# Altium footprint library SOT.PcbLib: 163 footprints (part 11 of 11)
Each footprint in its own frame and in the unit in brackets; x right, y up, seen from the top. Pads: shape width x height; smd on the part's side, far side on the other; paste and mask are expansions set on the pad; w line width, h text height; cw(c..) or ccw(c..) is an arc to the next point about the centre after c.
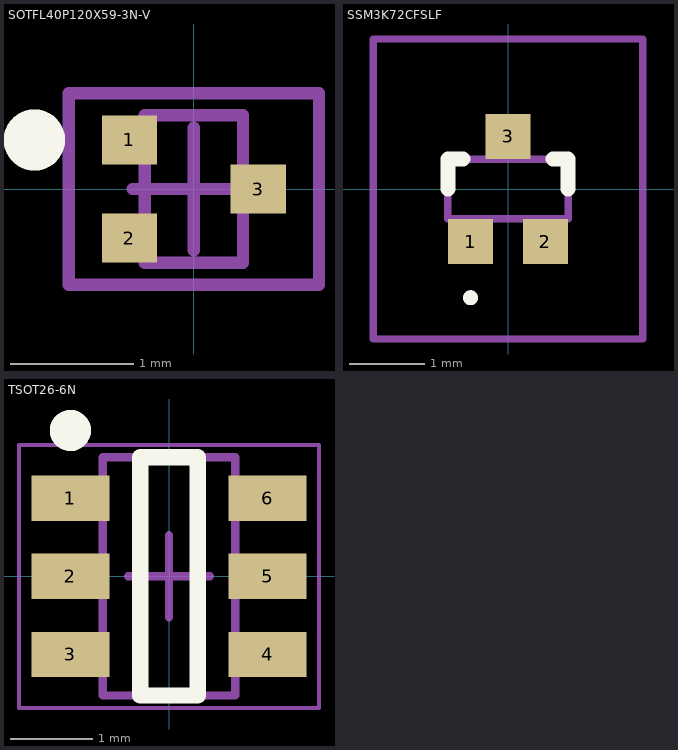
[diagram p10: the footprints below, top view; thin cyan lines are the x and y axes]

## SOTFL40P120X59-3N-V [mm] "SOTFL,0.40mm pitch;3 pin,0.80mm W X 1.20mm L X 0.59mm H body"
height 0.59
pads (3):
  rect 0.45x0.4 smd paste+0 mask+0: 1(-0.525,0.4) 2(-0.525,-0.4) 3(0.525,0)
Top Overlay:
  circle w0.25: c-1.3,0.4 r0.125
Mechanical 3:
  text ".DESIGNATOR" at 0,0 h1.2
Mechanical 13:
  lines w0.1: -0.4,-0.6 0.4,-0.6 0.4,0.6 -0.4,0.6 -0.4,-0.6
Mechanical 15:
  lines w0.1: -0.5,0 0.5,0 ; 0,-0.5 0,0.5 ; -1.02,-0.78 1.02,-0.78 1.02,0.78 -1.02,0.78 -1.02,-0.78
3D body "PG-TSFP-3-1.stp": height 0.59, standoff 0, extent -0.6,-0.6 0.6,0.6

## SSM3K72CFSLF [mm]
pads (3):
  rect 0.6x0.6 smd: 1(-0.5,-0.7) 2(0.5,-0.7) 3(0,0.7)
Top Overlay:
  lines w0.1: -0.5,-1.5 ccw(c-0.5,-1.45) -0.5,-1.4 ccw(c-0.5,-1.45) -0.5,-1.5
  lines w0.2: -0.8,0 -0.8,0.4 -0.6,0.4 ; 0.6,0.4 0.8,0.4 0.8,0
Mechanical 13:
  lines w0.1: -0.8,-0.4 -0.8,0.4 0.8,0.4 0.8,-0.4 -0.8,-0.4
Mechanical 15:
  lines w0.1: -1.8,-2 -1.8,2 1.8,2 1.8,-2 -1.8,-2
3D body "SSM3K72CFS,LF.stp": height 1, standoff 0, extent -0.8,-0.94 0.8,0.94

## TSOT26-6N [mm] "SOTFL, 6-Leads, Body 2,90x2,80mm, Pitch 0,95mm, IPC Medium Density"
height 1.2
pads (6):
  rect 0.95x0.55 smd: 1(-1.2,0.95) 2(-1.2,0) 3(-1.2,-0.95) 4(1.2,-0.95) 5(1.2,0) 6(1.2,0.95)
Top Overlay:
  circle w0.25: c-1.2,1.775 r0.125
  lines w0.2: -0.35,-1.45 0.35,-1.45 0.35,1.45 -0.35,1.45 -0.35,-1.45
Mechanical 13:
  lines w0.1: -0.805,-1.45 -0.805,1.45 0.805,1.45 0.805,-1.45 -0.805,-1.45
Mechanical 15:
  lines w0.05: -1.825,-1.6 -1.825,1.6 1.825,1.6 1.825,-1.6 -1.825,-1.6
  lines w0.1: -0.5,0 0.5,0 ; 0,-0.5 0,0.5
3D body "SOTFL95P280X120-6N.step": height 1.2, standoff 0, extent -1.4,-1.448 1.4,1.448